# Altium integrated library 885012004001_Altium_WCAP-CSGP_rev24c.IntLib: 1002 symbols (part 5 of 21)
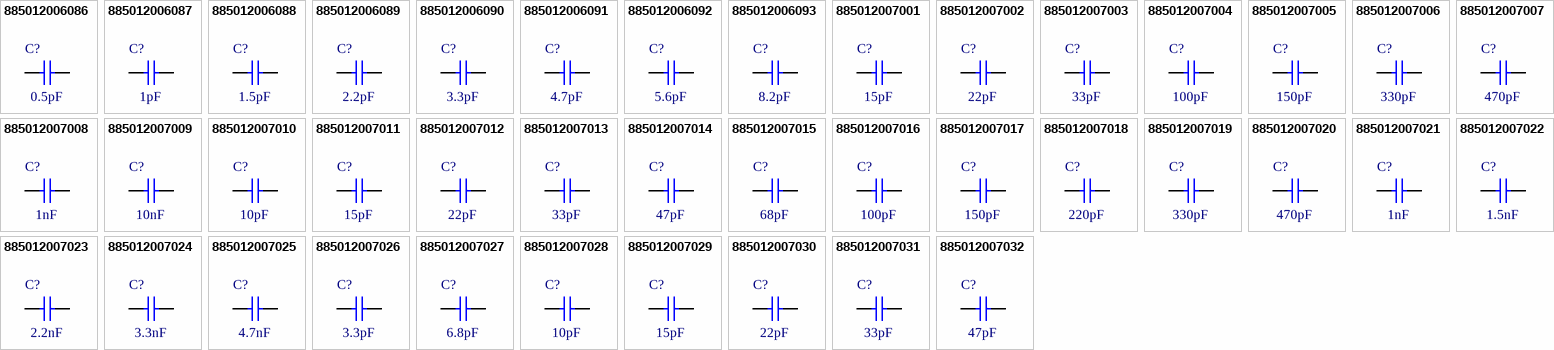
[diagram p29: symbols 885012006086 to 885012007032]

## 885012007031
designator C?, comment 33pF
WCAP-CSGP Multilayer Ceramic Chip Capacitor, General Purpose, size 0805, NP0, 33pF, 25V; Manufacturer Part Number: 885012007031; Manufacturer: Wurth Elektronik; Case/Size Code: 0805; Capacitance Tolerance: +/-5%; Insulation Resistance: 10GΩ; Q Factor: 1000; Technical Reference: NP00805330J025DFCT10000; Category: Multilayer Ceramic Chip Capacitors; Match Code: WCAP-CSGP; ComponentLink1Description: Website Link; ComponentLink1URL: https://www.we-online.com/redexpert/article/885012007031?ad; ComponentLink2Description: Datasheet Link; ComponentLink2URL: https://www.we-online.com/redexpert/spec/885012007031?ad; Mount: Surface Mount; Min Operating Temperature: -55°C; Max Operating Temperature: 125°C; Packaging: Tape and Reel; Length: 2mm; Width: 1.25mm; Height: 0.6mm; Capacitance: 33pF; Ceramic Type: NP0; Rated Voltage (DC): 25V
footprint WCAP-CSGP_0805_L2W1.25H0.6_Reflow
footprint WCAP-CSGP_0805_L2W1.25H0.6_Wave
simulation model 0805_885012007031_33pF
pins: 1, 2

## 885012007032
designator C?, comment 47pF
WCAP-CSGP Multilayer Ceramic Chip Capacitor, General Purpose, size 0805, NP0, 47pF, 25V; Manufacturer Part Number: 885012007032; Manufacturer: Wurth Elektronik; Case/Size Code: 0805; Capacitance Tolerance: +/-5%; Insulation Resistance: 10GΩ; Q Factor: 1000; Technical Reference: NP00805470J025DFCT10000; Category: Multilayer Ceramic Chip Capacitors; Match Code: WCAP-CSGP; ComponentLink1Description: Website Link; ComponentLink1URL: https://www.we-online.com/redexpert/article/885012007032?ad; ComponentLink2Description: Datasheet Link; ComponentLink2URL: https://www.we-online.com/redexpert/spec/885012007032?ad; Mount: Surface Mount; Min Operating Temperature: -55°C; Max Operating Temperature: 125°C; Packaging: Tape and Reel; Length: 2mm; Width: 1.25mm; Height: 0.6mm; Capacitance: 47pF; Ceramic Type: NP0; Rated Voltage (DC): 25V
footprint WCAP-CSGP_0805_L2W1.25H0.6_Reflow
footprint WCAP-CSGP_0805_L2W1.25H0.6_Wave
simulation model 0805_885012007032_47pF
pins: 1, 2

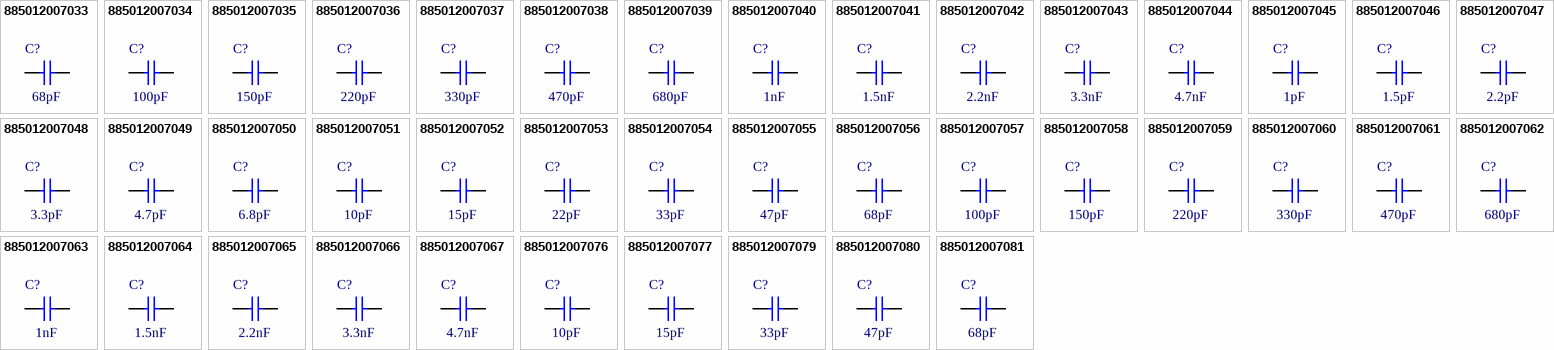
[diagram p5: symbols 885012007033 to 885012007081]

## 885012007033
designator C?, comment 68pF
WCAP-CSGP Multilayer Ceramic Chip Capacitor, General Purpose, size 0805, NP0, 68pF, 25V; Manufacturer Part Number: 885012007033; Manufacturer: Wurth Elektronik; Case/Size Code: 0805; Capacitance Tolerance: +/-5%; Insulation Resistance: 10GΩ; Q Factor: 1000; Technical Reference: NP00805680J025DFCT10000; Category: Multilayer Ceramic Chip Capacitors; Match Code: WCAP-CSGP; ComponentLink1Description: Website Link; ComponentLink1URL: https://www.we-online.com/redexpert/article/885012007033?ad; ComponentLink2Description: Datasheet Link; ComponentLink2URL: https://www.we-online.com/redexpert/spec/885012007033?ad; Mount: Surface Mount; Min Operating Temperature: -55°C; Max Operating Temperature: 125°C; Packaging: Tape and Reel; Length: 2mm; Width: 1.25mm; Height: 0.6mm; Capacitance: 68pF; Ceramic Type: NP0; Rated Voltage (DC): 25V
footprint WCAP-CSGP_0805_L2W1.25H0.6_Reflow
footprint WCAP-CSGP_0805_L2W1.25H0.6_Wave
simulation model 0805_885012007033_68pF
pins: 1, 2

## 885012007034
designator C?, comment 100pF
WCAP-CSGP Multilayer Ceramic Chip Capacitor, General Purpose, size 0805, NP0, 100pF, 25V; Manufacturer Part Number: 885012007034; Manufacturer: Wurth Elektronik; Case/Size Code: 0805; Capacitance Tolerance: +/-5%; Insulation Resistance: 10GΩ; Q Factor: 1000; Technical Reference: NP00805101J025DFCT10000; Category: Multilayer Ceramic Chip Capacitors; Match Code: WCAP-CSGP; ComponentLink1Description: Website Link; ComponentLink1URL: https://www.we-online.com/redexpert/article/885012007034?ad; ComponentLink2Description: Datasheet Link; ComponentLink2URL: https://www.we-online.com/redexpert/spec/885012007034?ad; Mount: Surface Mount; Min Operating Temperature: -55°C; Max Operating Temperature: 125°C; Packaging: Tape and Reel; Length: 2mm; Width: 1.25mm; Height: 0.6mm; Capacitance: 100pF; Ceramic Type: NP0; Rated Voltage (DC): 25V
footprint WCAP-CSGP_0805_L2W1.25H0.6_Reflow
footprint WCAP-CSGP_0805_L2W1.25H0.6_Wave
simulation model 0805_885012007034_100pF
pins: 1, 2

## 885012007035
designator C?, comment 150pF
WCAP-CSGP Multilayer Ceramic Chip Capacitor, General Purpose, size 0805, NP0, 150pF, 25V; Manufacturer Part Number: 885012007035; Manufacturer: Wurth Elektronik; Case/Size Code: 0805; Capacitance Tolerance: +/-5%; Insulation Resistance: 10GΩ; Q Factor: 1000; Technical Reference: NP00805151J025DFCT10000; Category: Multilayer Ceramic Chip Capacitors; Match Code: WCAP-CSGP; ComponentLink1Description: Website Link; ComponentLink1URL: https://www.we-online.com/redexpert/article/885012007035?ad; ComponentLink2Description: Datasheet Link; ComponentLink2URL: https://www.we-online.com/redexpert/spec/885012007035?ad; Mount: Surface Mount; Min Operating Temperature: -55°C; Max Operating Temperature: 125°C; Packaging: Tape and Reel; Length: 2mm; Width: 1.25mm; Height: 0.6mm; Capacitance: 150pF; Ceramic Type: NP0; Rated Voltage (DC): 25V
footprint WCAP-CSGP_0805_L2W1.25H0.6_Reflow
footprint WCAP-CSGP_0805_L2W1.25H0.6_Wave
simulation model 0805_885012007035_150pF
pins: 1, 2

## 885012007036
designator C?, comment 220pF
WCAP-CSGP Multilayer Ceramic Chip Capacitor, General Purpose, size 0805, NP0, 220pF, 25V; Manufacturer Part Number: 885012007036; Manufacturer: Wurth Elektronik; Case/Size Code: 0805; Capacitance Tolerance: +/-5%; Insulation Resistance: 10GΩ; Q Factor: 1000; Technical Reference: NP00805221J025DFCT10000; Category: Multilayer Ceramic Chip Capacitors; Match Code: WCAP-CSGP; ComponentLink1Description: Website Link; ComponentLink1URL: https://www.we-online.com/redexpert/article/885012007036?ad; ComponentLink2Description: Datasheet Link; ComponentLink2URL: https://www.we-online.com/redexpert/spec/885012007036?ad; Mount: Surface Mount; Min Operating Temperature: -55°C; Max Operating Temperature: 125°C; Packaging: Tape and Reel; Length: 2mm; Width: 1.25mm; Height: 0.6mm; Capacitance: 220pF; Ceramic Type: NP0; Rated Voltage (DC): 25V
footprint WCAP-CSGP_0805_L2W1.25H0.6_Reflow
footprint WCAP-CSGP_0805_L2W1.25H0.6_Wave
simulation model 0805_885012007036_220pF
pins: 1, 2

## 885012007037
designator C?, comment 330pF
WCAP-CSGP Multilayer Ceramic Chip Capacitor, General Purpose, size 0805, NP0, 330pF, 25V; Manufacturer Part Number: 885012007037; Manufacturer: Wurth Elektronik; Case/Size Code: 0805; Capacitance Tolerance: +/-5%; Insulation Resistance: 10GΩ; Q Factor: 1000; Technical Reference: NP00805331J025DFCT10000; Category: Multilayer Ceramic Chip Capacitors; Match Code: WCAP-CSGP; ComponentLink1Description: Website Link; ComponentLink1URL: https://www.we-online.com/redexpert/article/885012007037?ad; ComponentLink2Description: Datasheet Link; ComponentLink2URL: https://www.we-online.com/redexpert/spec/885012007037?ad; Mount: Surface Mount; Min Operating Temperature: -55°C; Max Operating Temperature: 125°C; Packaging: Tape and Reel; Length: 2mm; Width: 1.25mm; Height: 0.6mm; Capacitance: 330pF; Ceramic Type: NP0; Rated Voltage (DC): 25V
footprint WCAP-CSGP_0805_L2W1.25H0.6_Reflow
footprint WCAP-CSGP_0805_L2W1.25H0.6_Wave
simulation model 0805_885012007037_330pF
pins: 1, 2

## 885012007038
designator C?, comment 470pF
WCAP-CSGP Multilayer Ceramic Chip Capacitor, General Purpose, size 0805, NP0, 470pF, 25V; Manufacturer Part Number: 885012007038; Manufacturer: Wurth Elektronik; Case/Size Code: 0805; Capacitance Tolerance: +/-5%; Insulation Resistance: 10GΩ; Q Factor: 1000; Technical Reference: NP00805471J025DFCT10000; Category: Multilayer Ceramic Chip Capacitors; Match Code: WCAP-CSGP; ComponentLink1Description: Website Link; ComponentLink1URL: https://www.we-online.com/redexpert/article/885012007038?ad; ComponentLink2Description: Datasheet Link; ComponentLink2URL: https://www.we-online.com/redexpert/spec/885012007038?ad; Mount: Surface Mount; Min Operating Temperature: -55°C; Max Operating Temperature: 125°C; Packaging: Tape and Reel; Length: 2mm; Width: 1.25mm; Height: 0.8mm; Capacitance: 470pF; Ceramic Type: NP0; Rated Voltage (DC): 25V
footprint WCAP-CSGP_0805_L2W1.25H0.8_Reflow
footprint WCAP-CSGP_0805_L2W1.25H0.8_Wave
simulation model 0805_885012007038_470pF
pins: 1, 2

## 885012007039
designator C?, comment 680pF
WCAP-CSGP Multilayer Ceramic Chip Capacitor, General Purpose, size 0805, NP0, 680pF, 25V; Manufacturer Part Number: 885012007039; Manufacturer: Wurth Elektronik; Case/Size Code: 0805; Capacitance Tolerance: +/-5%; Insulation Resistance: 10GΩ; Q Factor: 1000; Technical Reference: NP00805681J025DFCT10000; Category: Multilayer Ceramic Chip Capacitors; Match Code: WCAP-CSGP; ComponentLink1Description: Website Link; ComponentLink1URL: https://www.we-online.com/redexpert/article/885012007039?ad; ComponentLink2Description: Datasheet Link; ComponentLink2URL: https://www.we-online.com/redexpert/spec/885012007039?ad; Mount: Surface Mount; Min Operating Temperature: -55°C; Max Operating Temperature: 125°C; Packaging: Tape and Reel; Length: 2mm; Width: 1.25mm; Height: 0.8mm; Capacitance: 680pF; Ceramic Type: NP0; Rated Voltage (DC): 25V
footprint WCAP-CSGP_0805_L2W1.25H0.8_Reflow
footprint WCAP-CSGP_0805_L2W1.25H0.8_Wave
simulation model 0805_885012007039_680pF
pins: 1, 2

## 885012007040
designator C?, comment 1nF
WCAP-CSGP Multilayer Ceramic Chip Capacitor, General Purpose, size 0805, NP0, 1nF, 25V; Manufacturer Part Number: 885012007040; Manufacturer: Wurth Elektronik; Case/Size Code: 0805; Capacitance Tolerance: +/-5%; Insulation Resistance: 10GΩ; Q Factor: 1000; Technical Reference: NP00805102J025DFCT10000; Category: Multilayer Ceramic Chip Capacitors; Match Code: WCAP-CSGP; ComponentLink1Description: Website Link; ComponentLink1URL: https://www.we-online.com/redexpert/article/885012007040?ad; ComponentLink2Description: Datasheet Link; ComponentLink2URL: https://www.we-online.com/redexpert/spec/885012007040?ad; Mount: Surface Mount; Min Operating Temperature: -55°C; Max Operating Temperature: 125°C; Packaging: Tape and Reel; Length: 2mm; Width: 1.25mm; Height: 0.8mm; Capacitance: 1nF; Ceramic Type: NP0; Rated Voltage (DC): 25V
footprint WCAP-CSGP_0805_L2W1.25H0.8_Reflow
footprint WCAP-CSGP_0805_L2W1.25H0.8_Wave
simulation model 0805_885012007040_1nF
pins: 1, 2

## 885012007041
designator C?, comment 1.5nF
WCAP-CSGP Multilayer Ceramic Chip Capacitor, General Purpose, size 0805, NP0, 1.5nF, 25V; Manufacturer Part Number: 885012007041; Manufacturer: Wurth Elektronik; Case/Size Code: 0805; Capacitance Tolerance: +/-5%; Insulation Resistance: 10GΩ; Q Factor: 1000; Technical Reference: NP00805152J025DFCT10000; Category: Multilayer Ceramic Chip Capacitors; Match Code: WCAP-CSGP; ComponentLink1Description: Website Link; ComponentLink1URL: https://www.we-online.com/redexpert/article/885012007041?ad; ComponentLink2Description: Datasheet Link; ComponentLink2URL: https://www.we-online.com/redexpert/spec/885012007041?ad; Mount: Surface Mount; Min Operating Temperature: -55°C; Max Operating Temperature: 125°C; Packaging: Tape and Reel; Length: 2mm; Width: 1.25mm; Height: 0.8mm; Capacitance: 1.5nF; Ceramic Type: NP0; Rated Voltage (DC): 25V
footprint WCAP-CSGP_0805_L2W1.25H0.8_Reflow
footprint WCAP-CSGP_0805_L2W1.25H0.8_Wave
simulation model 0805_885012007041_1.5nF
pins: 1, 2

## 885012007042
designator C?, comment 2.2nF
WCAP-CSGP Multilayer Ceramic Chip Capacitor, General Purpose, size 0805, NP0, 2.2nF, 25V; Manufacturer Part Number: 885012007042; Manufacturer: Wurth Elektronik; Case/Size Code: 0805; Capacitance Tolerance: +/-5%; Insulation Resistance: 10GΩ; Q Factor: 1000; Technical Reference: NP00805222J025DFCT10000; Category: Multilayer Ceramic Chip Capacitors; Match Code: WCAP-CSGP; ComponentLink1Description: Website Link; ComponentLink1URL: https://www.we-online.com/redexpert/article/885012007042?ad; ComponentLink2Description: Datasheet Link; ComponentLink2URL: https://www.we-online.com/redexpert/spec/885012007042?ad; Mount: Surface Mount; Min Operating Temperature: -55°C; Max Operating Temperature: 125°C; Packaging: Tape and Reel; Length: 2mm; Width: 1.25mm; Height: 0.8mm; Capacitance: 2.2nF; Ceramic Type: NP0; Rated Voltage (DC): 25V
footprint WCAP-CSGP_0805_L2W1.25H0.8_Reflow
footprint WCAP-CSGP_0805_L2W1.25H0.8_Wave
simulation model 0805_885012007042_2.2nF
pins: 1, 2

## 885012007043
designator C?, comment 3.3nF
WCAP-CSGP Multilayer Ceramic Chip Capacitor, General Purpose, size 0805, NP0, 3.3nF, 25V; Manufacturer Part Number: 885012007043; Manufacturer: Wurth Elektronik; Case/Size Code: 0805; Capacitance Tolerance: +/-5%; Insulation Resistance: 10GΩ; Q Factor: 1000; Technical Reference: NP00805332J025DFCT10000; Category: Multilayer Ceramic Chip Capacitors; Match Code: WCAP-CSGP; ComponentLink1Description: Website Link; ComponentLink1URL: https://www.we-online.com/redexpert/article/885012007043?ad; ComponentLink2Description: Datasheet Link; ComponentLink2URL: https://www.we-online.com/redexpert/spec/885012007043?ad; Mount: Surface Mount; Min Operating Temperature: -55°C; Max Operating Temperature: 125°C; Packaging: Tape and Reel; Length: 2mm; Width: 1.25mm; Height: 1.25mm; Capacitance: 3.3nF; Ceramic Type: NP0; Rated Voltage (DC): 25V
footprint WCAP-CSGP_0805_L2W1.25H1.25
simulation model 0805_885012007043_3.3nF
pins: 1, 2

## 885012007044
designator C?, comment 4.7nF
WCAP-CSGP Multilayer Ceramic Chip Capacitor, General Purpose, size 0805, NP0, 4.7nF, 25V; Manufacturer Part Number: 885012007044; Manufacturer: Wurth Elektronik; Case/Size Code: 0805; Capacitance Tolerance: +/-5%; Insulation Resistance: 10GΩ; Q Factor: 1000; Technical Reference: NP00805472J025DFCT10000; Category: Multilayer Ceramic Chip Capacitors; Match Code: WCAP-CSGP; ComponentLink1Description: Website Link; ComponentLink1URL: https://www.we-online.com/redexpert/article/885012007044?ad; ComponentLink2Description: Datasheet Link; ComponentLink2URL: https://www.we-online.com/redexpert/spec/885012007044?ad; Mount: Surface Mount; Min Operating Temperature: -55°C; Max Operating Temperature: 125°C; Packaging: Tape and Reel; Length: 2mm; Width: 1.25mm; Height: 1.25mm; Capacitance: 4.7nF; Ceramic Type: NP0; Rated Voltage (DC): 25V
footprint WCAP-CSGP_0805_L2W1.25H1.25
simulation model 0805_885012007044_4.7nF
pins: 1, 2

## 885012007045
designator C?, comment 1pF
WCAP-CSGP Multilayer Ceramic Chip Capacitor, General Purpose, size 0805, NP0, 1pF, 50V; Manufacturer Part Number: 885012007045; Manufacturer: Wurth Elektronik; Case/Size Code: 0805; Capacitance Tolerance: +/-0.5pF; Insulation Resistance: 10GΩ; Q Factor: 420; Technical Reference: NP008051R0D050DFCT10000; Category: Multilayer Ceramic Chip Capacitors; Match Code: WCAP-CSGP; ComponentLink1Description: Website Link; ComponentLink1URL: https://www.we-online.com/redexpert/article/885012007045?ad; ComponentLink2Description: Datasheet Link; ComponentLink2URL: https://www.we-online.com/redexpert/spec/885012007045?ad; Mount: Surface Mount; Min Operating Temperature: -55°C; Max Operating Temperature: 125°C; Packaging: Tape and Reel; Length: 2mm; Width: 1.25mm; Height: 0.6mm; Capacitance: 1pF; Ceramic Type: NP0; Rated Voltage (DC): 50V
footprint WCAP-CSGP_0805_L2W1.25H0.6_Reflow
footprint WCAP-CSGP_0805_L2W1.25H0.6_Wave
pins: 1, 2

## 885012007046
designator C?, comment 1.5pF
WCAP-CSGP Multilayer Ceramic Chip Capacitor, General Purpose, size 0805, NP0, 1.5pF, 50V; Manufacturer Part Number: 885012007046; Manufacturer: Wurth Elektronik; Case/Size Code: 0805; Capacitance Tolerance: +/-0.5pF; Insulation Resistance: 10GΩ; Q Factor: 430; Technical Reference: NP008051R5D050DFCT10000; Category: Multilayer Ceramic Chip Capacitors; Match Code: WCAP-CSGP; ComponentLink1Description: Website Link; ComponentLink1URL: https://www.we-online.com/redexpert/article/885012007046?ad; ComponentLink2Description: Datasheet Link; ComponentLink2URL: https://www.we-online.com/redexpert/spec/885012007046?ad; Mount: Surface Mount; Min Operating Temperature: -55°C; Max Operating Temperature: 125°C; Packaging: Tape and Reel; Length: 2mm; Width: 1.25mm; Height: 0.6mm; Capacitance: 1.5pF; Ceramic Type: NP0; Rated Voltage (DC): 50V
footprint WCAP-CSGP_0805_L2W1.25H0.6_Reflow
footprint WCAP-CSGP_0805_L2W1.25H0.6_Wave
simulation model 0805_885012007046_1.5pF
pins: 1, 2

## 885012007047
designator C?, comment 2.2pF
WCAP-CSGP Multilayer Ceramic Chip Capacitor, General Purpose, size 0805, NP0, 2.2pF, 50V; Manufacturer Part Number: 885012007047; Manufacturer: Wurth Elektronik; Case/Size Code: 0805; Capacitance Tolerance: +/-0.5pF; Insulation Resistance: 10GΩ; Q Factor: 444; Technical Reference: NP008052R2D050DFCT10000; Category: Multilayer Ceramic Chip Capacitors; Match Code: WCAP-CSGP; ComponentLink1Description: Website Link; ComponentLink1URL: https://www.we-online.com/redexpert/article/885012007047?ad; ComponentLink2Description: Datasheet Link; ComponentLink2URL: https://www.we-online.com/redexpert/spec/885012007047?ad; Mount: Surface Mount; Min Operating Temperature: -55°C; Max Operating Temperature: 125°C; Packaging: Tape and Reel; Length: 2mm; Width: 1.25mm; Height: 0.6mm; Capacitance: 2.2pF; Ceramic Type: NP0; Rated Voltage (DC): 50V
footprint WCAP-CSGP_0805_L2W1.25H0.6_Reflow
footprint WCAP-CSGP_0805_L2W1.25H0.6_Wave
simulation model 0805_885012007047_2.2pF
pins: 1, 2

## 885012007048
designator C?, comment 3.3pF
WCAP-CSGP Multilayer Ceramic Chip Capacitor, General Purpose, size 0805, NP0, 3.3pF, 50V; Manufacturer Part Number: 885012007048; Manufacturer: Wurth Elektronik; Case/Size Code: 0805; Capacitance Tolerance: +/-0.5pF; Insulation Resistance: 10GΩ; Q Factor: 466; Technical Reference: NP008053R3D050DFCT10000; Category: Multilayer Ceramic Chip Capacitors; Match Code: WCAP-CSGP; ComponentLink1Description: Website Link; ComponentLink1URL: https://www.we-online.com/redexpert/article/885012007048?ad; ComponentLink2Description: Datasheet Link; ComponentLink2URL: https://www.we-online.com/redexpert/spec/885012007048?ad; Mount: Surface Mount; Min Operating Temperature: -55°C; Max Operating Temperature: 125°C; Packaging: Tape and Reel; Length: 2mm; Width: 1.25mm; Height: 0.6mm; Capacitance: 3.3pF; Ceramic Type: NP0; Rated Voltage (DC): 50V
footprint WCAP-CSGP_0805_L2W1.25H0.6_Reflow
footprint WCAP-CSGP_0805_L2W1.25H0.6_Wave
simulation model 0805_885012007048_3.3pF
pins: 1, 2

## 885012007049
designator C?, comment 4.7pF
WCAP-CSGP Multilayer Ceramic Chip Capacitor, General Purpose, size 0805, NP0, 4.7pF, 50V; Manufacturer Part Number: 885012007049; Manufacturer: Wurth Elektronik; Case/Size Code: 0805; Capacitance Tolerance: +/-0.5pF; Insulation Resistance: 10GΩ; Q Factor: 494; Technical Reference: NP008054R7D050DFCT10000; Category: Multilayer Ceramic Chip Capacitors; Match Code: WCAP-CSGP; ComponentLink1Description: Website Link; ComponentLink1URL: https://www.we-online.com/redexpert/article/885012007049?ad; ComponentLink2Description: Datasheet Link; ComponentLink2URL: https://www.we-online.com/redexpert/spec/885012007049?ad; Mount: Surface Mount; Min Operating Temperature: -55°C; Max Operating Temperature: 125°C; Packaging: Tape and Reel; Length: 2mm; Width: 1.25mm; Height: 0.6mm; Capacitance: 4.7pF; Ceramic Type: NP0; Rated Voltage (DC): 50V
footprint WCAP-CSGP_0805_L2W1.25H0.6_Reflow
footprint WCAP-CSGP_0805_L2W1.25H0.6_Wave
simulation model 0805_885012007049_4.7pF
pins: 1, 2

## 885012007050
designator C?, comment 6.8pF
WCAP-CSGP Multilayer Ceramic Chip Capacitor, General Purpose, size 0805, NP0, 6.8pF, 50V; Manufacturer Part Number: 885012007050; Manufacturer: Wurth Elektronik; Case/Size Code: 0805; Capacitance Tolerance: +/-0.5pF; Insulation Resistance: 10GΩ; Q Factor: 536; Technical Reference: NP008056R8D050DFCT10000; Category: Multilayer Ceramic Chip Capacitors; Match Code: WCAP-CSGP; ComponentLink1Description: Website Link; ComponentLink1URL: https://www.we-online.com/redexpert/article/885012007050?ad; ComponentLink2Description: Datasheet Link; ComponentLink2URL: https://www.we-online.com/redexpert/spec/885012007050?ad; Mount: Surface Mount; Min Operating Temperature: -55°C; Max Operating Temperature: 125°C; Packaging: Tape and Reel; Length: 2mm; Width: 1.25mm; Height: 0.6mm; Capacitance: 6.8pF; Ceramic Type: NP0; Rated Voltage (DC): 50V
footprint WCAP-CSGP_0805_L2W1.25H0.6_Reflow
footprint WCAP-CSGP_0805_L2W1.25H0.6_Wave
simulation model 0805_885012007050_6.8pF
pins: 1, 2

## 885012007051
designator C?, comment 10pF
WCAP-CSGP Multilayer Ceramic Chip Capacitor, General Purpose, size 0805, NP0, 10pF, 50V; Manufacturer Part Number: 885012007051; Manufacturer: Wurth Elektronik; Case/Size Code: 0805; Capacitance Tolerance: +/-5%; Insulation Resistance: 10GΩ; Q Factor: 600; Technical Reference: NP00805100J050DFCT10000; Category: Multilayer Ceramic Chip Capacitors; Match Code: WCAP-CSGP; ComponentLink1Description: Website Link; ComponentLink1URL: https://www.we-online.com/redexpert/article/885012007051?ad; ComponentLink2Description: Datasheet Link; ComponentLink2URL: https://www.we-online.com/redexpert/spec/885012007051?ad; Mount: Surface Mount; Min Operating Temperature: -55°C; Max Operating Temperature: 125°C; Packaging: Tape and Reel; Length: 2mm; Width: 1.25mm; Height: 0.6mm; Capacitance: 10pF; Ceramic Type: NP0; Rated Voltage (DC): 50V
footprint WCAP-CSGP_0805_L2W1.25H0.6_Reflow
footprint WCAP-CSGP_0805_L2W1.25H0.6_Wave
simulation model 0805_885012007051_10pF
pins: 1, 2

## 885012007052
designator C?, comment 15pF
WCAP-CSGP Multilayer Ceramic Chip Capacitor, General Purpose, size 0805, NP0, 15pF, 50V; Manufacturer Part Number: 885012007052; Manufacturer: Wurth Elektronik; Case/Size Code: 0805; Capacitance Tolerance: +/-5%; Insulation Resistance: 10GΩ; Q Factor: 700; Technical Reference: NP00805150J050DFCT10000; Category: Multilayer Ceramic Chip Capacitors; Match Code: WCAP-CSGP; ComponentLink1Description: Website Link; ComponentLink1URL: https://www.we-online.com/redexpert/article/885012007052?ad; ComponentLink2Description: Datasheet Link; ComponentLink2URL: https://www.we-online.com/redexpert/spec/885012007052?ad; Mount: Surface Mount; Min Operating Temperature: -55°C; Max Operating Temperature: 125°C; Packaging: Tape and Reel; Length: 2mm; Width: 1.25mm; Height: 0.6mm; Capacitance: 15pF; Ceramic Type: NP0; Rated Voltage (DC): 50V
footprint WCAP-CSGP_0805_L2W1.25H0.6_Reflow
footprint WCAP-CSGP_0805_L2W1.25H0.6_Wave
simulation model 0805_885012007052_15pF
pins: 1, 2

## 885012007053
designator C?, comment 22pF
WCAP-CSGP Multilayer Ceramic Chip Capacitor, General Purpose, size 0805, NP0, 22pF, 50V; Manufacturer Part Number: 885012007053; Manufacturer: Wurth Elektronik; Case/Size Code: 0805; Capacitance Tolerance: +/-5%; Insulation Resistance: 10GΩ; Q Factor: 840; Technical Reference: NP00805220J050DFCT10000; Category: Multilayer Ceramic Chip Capacitors; Match Code: WCAP-CSGP; ComponentLink1Description: Website Link; ComponentLink1URL: https://www.we-online.com/redexpert/article/885012007053?ad; ComponentLink2Description: Datasheet Link; ComponentLink2URL: https://www.we-online.com/redexpert/spec/885012007053?ad; Mount: Surface Mount; Min Operating Temperature: -55°C; Max Operating Temperature: 125°C; Packaging: Tape and Reel; Length: 2mm; Width: 1.25mm; Height: 0.6mm; Capacitance: 22pF; Ceramic Type: NP0; Rated Voltage (DC): 50V
footprint WCAP-CSGP_0805_L2W1.25H0.6_Reflow
footprint WCAP-CSGP_0805_L2W1.25H0.6_Wave
simulation model 0805_885012007053_22pF
pins: 1, 2

## 885012007054
designator C?, comment 33pF
WCAP-CSGP Multilayer Ceramic Chip Capacitor, General Purpose, size 0805, NP0, 33pF, 50V; Manufacturer Part Number: 885012007054; Manufacturer: Wurth Elektronik; Case/Size Code: 0805; Capacitance Tolerance: +/-5%; Insulation Resistance: 10GΩ; Q Factor: 1000; Technical Reference: NP00805330J050DFCT10000; Category: Multilayer Ceramic Chip Capacitors; Match Code: WCAP-CSGP; ComponentLink1Description: Website Link; ComponentLink1URL: https://www.we-online.com/redexpert/article/885012007054?ad; ComponentLink2Description: Datasheet Link; ComponentLink2URL: https://www.we-online.com/redexpert/spec/885012007054?ad; Mount: Surface Mount; Min Operating Temperature: -55°C; Max Operating Temperature: 125°C; Packaging: Tape and Reel; Length: 2mm; Width: 1.25mm; Height: 0.6mm; Capacitance: 33pF; Ceramic Type: NP0; Rated Voltage (DC): 50V
footprint WCAP-CSGP_0805_L2W1.25H0.6_Reflow
footprint WCAP-CSGP_0805_L2W1.25H0.6_Wave
simulation model 0805_885012007054_33pF
pins: 1, 2

## 885012007055
designator C?, comment 47pF
WCAP-CSGP Multilayer Ceramic Chip Capacitor, General Purpose, size 0805, NP0, 47pF, 50V; Manufacturer Part Number: 885012007055; Manufacturer: Wurth Elektronik; Case/Size Code: 0805; Capacitance Tolerance: +/-5%; Insulation Resistance: 10GΩ; Q Factor: 1000; Technical Reference: NP00805470J050DFCT10000; Category: Multilayer Ceramic Chip Capacitors; Match Code: WCAP-CSGP; ComponentLink1Description: Website Link; ComponentLink1URL: https://www.we-online.com/redexpert/article/885012007055?ad; ComponentLink2Description: Datasheet Link; ComponentLink2URL: https://www.we-online.com/redexpert/spec/885012007055?ad; Mount: Surface Mount; Min Operating Temperature: -55°C; Max Operating Temperature: 125°C; Packaging: Tape and Reel; Length: 2mm; Width: 1.25mm; Height: 0.6mm; Capacitance: 47pF; Ceramic Type: NP0; Rated Voltage (DC): 50V
footprint WCAP-CSGP_0805_L2W1.25H0.6_Reflow
footprint WCAP-CSGP_0805_L2W1.25H0.6_Wave
simulation model 0805_885012007055_47pF
pins: 1, 2

## 885012007056
designator C?, comment 68pF
WCAP-CSGP Multilayer Ceramic Chip Capacitor, General Purpose, size 0805, NP0, 68pF, 50V; Manufacturer Part Number: 885012007056; Manufacturer: Wurth Elektronik; Case/Size Code: 0805; Capacitance Tolerance: +/-5%; Insulation Resistance: 10GΩ; Q Factor: 1000; Technical Reference: NP00805680J050DFCT10000; Category: Multilayer Ceramic Chip Capacitors; Match Code: WCAP-CSGP; ComponentLink1Description: Website Link; ComponentLink1URL: https://www.we-online.com/redexpert/article/885012007056?ad; ComponentLink2Description: Datasheet Link; ComponentLink2URL: https://www.we-online.com/redexpert/spec/885012007056?ad; Mount: Surface Mount; Min Operating Temperature: -55°C; Max Operating Temperature: 125°C; Packaging: Tape and Reel; Length: 2mm; Width: 1.25mm; Height: 0.6mm; Capacitance: 68pF; Ceramic Type: NP0; Rated Voltage (DC): 50V
footprint WCAP-CSGP_0805_L2W1.25H0.6_Reflow
footprint WCAP-CSGP_0805_L2W1.25H0.6_Wave
simulation model 0805_885012007056_68pF
pins: 1, 2

## 885012007057
designator C?, comment 100pF
WCAP-CSGP Multilayer Ceramic Chip Capacitor, General Purpose, size 0805, NP0, 100pF, 50V; Manufacturer Part Number: 885012007057; Manufacturer: Wurth Elektronik; Case/Size Code: 0805; Capacitance Tolerance: +/-5%; Insulation Resistance: 10GΩ; Q Factor: 1000; Technical Reference: NP00805101J050DFCT10000; Category: Multilayer Ceramic Chip Capacitors; Match Code: WCAP-CSGP; ComponentLink1Description: Website Link; ComponentLink1URL: https://www.we-online.com/redexpert/article/885012007057?ad; ComponentLink2Description: Datasheet Link; ComponentLink2URL: https://www.we-online.com/redexpert/spec/885012007057?ad; Mount: Surface Mount; Min Operating Temperature: -55°C; Max Operating Temperature: 125°C; Packaging: Tape and Reel; Length: 2mm; Width: 1.25mm; Height: 0.6mm; Capacitance: 100pF; Ceramic Type: NP0; Rated Voltage (DC): 50V
footprint WCAP-CSGP_0805_L2W1.25H0.6_Reflow
footprint WCAP-CSGP_0805_L2W1.25H0.6_Wave
simulation model 0805_885012007057_100pF
pins: 1, 2

## 885012007058
designator C?, comment 150pF
WCAP-CSGP Multilayer Ceramic Chip Capacitor, General Purpose, size 0805, NP0, 150pF, 50V; Manufacturer Part Number: 885012007058; Manufacturer: Wurth Elektronik; Case/Size Code: 0805; Capacitance Tolerance: +/-5%; Insulation Resistance: 10GΩ; Q Factor: 1000; Technical Reference: NP00805151J050DFCT10000; Category: Multilayer Ceramic Chip Capacitors; Match Code: WCAP-CSGP; ComponentLink1Description: Website Link; ComponentLink1URL: https://www.we-online.com/redexpert/article/885012007058?ad; ComponentLink2Description: Datasheet Link; ComponentLink2URL: https://www.we-online.com/redexpert/spec/885012007058?ad; Mount: Surface Mount; Min Operating Temperature: -55°C; Max Operating Temperature: 125°C; Packaging: Tape and Reel; Length: 2mm; Width: 1.25mm; Height: 0.6mm; Capacitance: 150pF; Ceramic Type: NP0; Rated Voltage (DC): 50V
footprint WCAP-CSGP_0805_L2W1.25H0.6_Reflow
footprint WCAP-CSGP_0805_L2W1.25H0.6_Wave
simulation model 0805_885012007058_150pF
pins: 1, 2

## 885012007059
designator C?, comment 220pF
WCAP-CSGP Multilayer Ceramic Chip Capacitor, General Purpose, size 0805, NP0, 220pF, 50V; Manufacturer Part Number: 885012007059; Manufacturer: Wurth Elektronik; Case/Size Code: 0805; Capacitance Tolerance: +/-5%; Insulation Resistance: 10GΩ; Q Factor: 1000; Technical Reference: NP00805221J050DFCT10000; Category: Multilayer Ceramic Chip Capacitors; Match Code: WCAP-CSGP; ComponentLink1Description: Website Link; ComponentLink1URL: https://www.we-online.com/redexpert/article/885012007059?ad; ComponentLink2Description: Datasheet Link; ComponentLink2URL: https://www.we-online.com/redexpert/spec/885012007059?ad; Mount: Surface Mount; Min Operating Temperature: -55°C; Max Operating Temperature: 125°C; Packaging: Tape and Reel; Length: 2mm; Width: 1.25mm; Height: 0.6mm; Capacitance: 220pF; Ceramic Type: NP0; Rated Voltage (DC): 50V
footprint WCAP-CSGP_0805_L2W1.25H0.6_Reflow
footprint WCAP-CSGP_0805_L2W1.25H0.6_Wave
simulation model 0805_885012007059_220pF
pins: 1, 2

## 885012007060
designator C?, comment 330pF
WCAP-CSGP Multilayer Ceramic Chip Capacitor, General Purpose, size 0805, NP0, 330pF, 50V; Manufacturer Part Number: 885012007060; Manufacturer: Wurth Elektronik; Case/Size Code: 0805; Capacitance Tolerance: +/-5%; Insulation Resistance: 10GΩ; Q Factor: 1000; Technical Reference: NP00805331J050DFCT10000; Category: Multilayer Ceramic Chip Capacitors; Match Code: WCAP-CSGP; ComponentLink1Description: Website Link; ComponentLink1URL: https://www.we-online.com/redexpert/article/885012007060?ad; ComponentLink2Description: Datasheet Link; ComponentLink2URL: https://www.we-online.com/redexpert/spec/885012007060?ad; Mount: Surface Mount; Min Operating Temperature: -55°C; Max Operating Temperature: 125°C; Packaging: Tape and Reel; Length: 2mm; Width: 1.25mm; Height: 0.6mm; Capacitance: 330pF; Ceramic Type: NP0; Rated Voltage (DC): 50V
footprint WCAP-CSGP_0805_L2W1.25H0.6_Reflow
footprint WCAP-CSGP_0805_L2W1.25H0.6_Wave
simulation model 0805_885012007060_330pF
pins: 1, 2

## 885012007061
designator C?, comment 470pF
WCAP-CSGP Multilayer Ceramic Chip Capacitor, General Purpose, size 0805, NP0, 470pF, 50V; Manufacturer Part Number: 885012007061; Manufacturer: Wurth Elektronik; Case/Size Code: 0805; Capacitance Tolerance: +/-5%; Insulation Resistance: 10GΩ; Q Factor: 1000; Technical Reference: NP00805471J050DFCT10000; Category: Multilayer Ceramic Chip Capacitors; Match Code: WCAP-CSGP; ComponentLink1Description: Website Link; ComponentLink1URL: https://www.we-online.com/redexpert/article/885012007061?ad; ComponentLink2Description: Datasheet Link; ComponentLink2URL: https://www.we-online.com/redexpert/spec/885012007061?ad; Mount: Surface Mount; Min Operating Temperature: -55°C; Max Operating Temperature: 125°C; Packaging: Tape and Reel; Length: 2mm; Width: 1.25mm; Height: 0.8mm; Capacitance: 470pF; Ceramic Type: NP0; Rated Voltage (DC): 50V
footprint WCAP-CSGP_0805_L2W1.25H0.8_Reflow
footprint WCAP-CSGP_0805_L2W1.25H0.8_Wave
simulation model 0805_885012007061_470pF
pins: 1, 2

## 885012007062
designator C?, comment 680pF
WCAP-CSGP Multilayer Ceramic Chip Capacitor, General Purpose, size 0805, NP0, 680pF, 50V; Manufacturer Part Number: 885012007062; Manufacturer: Wurth Elektronik; Case/Size Code: 0805; Capacitance Tolerance: +/-5%; Insulation Resistance: 10GΩ; Q Factor: 1000; Technical Reference: NP00805681J050DFCT10000; Category: Multilayer Ceramic Chip Capacitors; Match Code: WCAP-CSGP; ComponentLink1Description: Website Link; ComponentLink1URL: https://www.we-online.com/redexpert/article/885012007062?ad; ComponentLink2Description: Datasheet Link; ComponentLink2URL: https://www.we-online.com/redexpert/spec/885012007062?ad; Mount: Surface Mount; Min Operating Temperature: -55°C; Max Operating Temperature: 125°C; Packaging: Tape and Reel; Length: 2mm; Width: 1.25mm; Height: 0.8mm; Capacitance: 680pF; Ceramic Type: NP0; Rated Voltage (DC): 50V
footprint WCAP-CSGP_0805_L2W1.25H0.8_Reflow
footprint WCAP-CSGP_0805_L2W1.25H0.8_Wave
simulation model 0805_885012007062_680pF
pins: 1, 2

## 885012007063
designator C?, comment 1nF
WCAP-CSGP Multilayer Ceramic Chip Capacitor, General Purpose, size 0805, NP0, 1nF, 50V; Manufacturer Part Number: 885012007063; Manufacturer: Wurth Elektronik; Case/Size Code: 0805; Capacitance Tolerance: +/-5%; Insulation Resistance: 10GΩ; Q Factor: 1000; Technical Reference: NP00805102J050DFCT10000; Category: Multilayer Ceramic Chip Capacitors; Match Code: WCAP-CSGP; ComponentLink1Description: Website Link; ComponentLink1URL: https://www.we-online.com/redexpert/article/885012007063?ad; ComponentLink2Description: Datasheet Link; ComponentLink2URL: https://www.we-online.com/redexpert/spec/885012007063?ad; Mount: Surface Mount; Min Operating Temperature: -55°C; Max Operating Temperature: 125°C; Packaging: Tape and Reel; Length: 2mm; Width: 1.25mm; Height: 0.8mm; Capacitance: 1nF; Ceramic Type: NP0; Rated Voltage (DC): 50V
footprint WCAP-CSGP_0805_L2W1.25H0.8_Reflow
footprint WCAP-CSGP_0805_L2W1.25H0.8_Wave
simulation model 0805_885012007063_1nF
pins: 1, 2

## 885012007064
designator C?, comment 1.5nF
WCAP-CSGP Multilayer Ceramic Chip Capacitor, General Purpose, size 0805, NP0, 1.5nF, 50V; Manufacturer Part Number: 885012007064; Manufacturer: Wurth Elektronik; Case/Size Code: 0805; Capacitance Tolerance: +/-5%; Insulation Resistance: 10GΩ; Q Factor: 1000; Technical Reference: NP00805152J050DFCT10000; Category: Multilayer Ceramic Chip Capacitors; Match Code: WCAP-CSGP; ComponentLink1Description: Website Link; ComponentLink1URL: https://www.we-online.com/redexpert/article/885012007064?ad; ComponentLink2Description: Datasheet Link; ComponentLink2URL: https://www.we-online.com/redexpert/spec/885012007064?ad; Mount: Surface Mount; Min Operating Temperature: -55°C; Max Operating Temperature: 125°C; Packaging: Tape and Reel; Length: 2mm; Width: 1.25mm; Height: 0.8mm; Capacitance: 1.5nF; Ceramic Type: NP0; Rated Voltage (DC): 50V
footprint WCAP-CSGP_0805_L2W1.25H0.8_Reflow
footprint WCAP-CSGP_0805_L2W1.25H0.8_Wave
simulation model 0805_885012007064_1.5nF
pins: 1, 2

## 885012007065
designator C?, comment 2.2nF
WCAP-CSGP Multilayer Ceramic Chip Capacitor, General Purpose, size 0805, NP0, 2.2nF, 50V; Manufacturer Part Number: 885012007065; Manufacturer: Wurth Elektronik; Case/Size Code: 0805; Capacitance Tolerance: +/-5%; Insulation Resistance: 10GΩ; Q Factor: 1000; Technical Reference: NP00805222J050DFCT10000; Category: Multilayer Ceramic Chip Capacitors; Match Code: WCAP-CSGP; ComponentLink1Description: Website Link; ComponentLink1URL: https://www.we-online.com/redexpert/article/885012007065?ad; ComponentLink2Description: Datasheet Link; ComponentLink2URL: https://www.we-online.com/redexpert/spec/885012007065?ad; Mount: Surface Mount; Min Operating Temperature: -55°C; Max Operating Temperature: 125°C; Packaging: Tape and Reel; Length: 2mm; Width: 1.25mm; Height: 0.8mm; Capacitance: 2.2nF; Ceramic Type: NP0; Rated Voltage (DC): 50V
footprint WCAP-CSGP_0805_L2W1.25H0.8_Reflow
footprint WCAP-CSGP_0805_L2W1.25H0.8_Wave
simulation model 0805_885012007065_2.2nF
pins: 1, 2

## 885012007066
designator C?, comment 3.3nF
WCAP-CSGP Multilayer Ceramic Chip Capacitor, General Purpose, size 0805, NP0, 3.3nF, 50V; Manufacturer Part Number: 885012007066; Manufacturer: Wurth Elektronik; Case/Size Code: 0805; Capacitance Tolerance: +/-5%; Insulation Resistance: 10GΩ; Q Factor: 1000; Technical Reference: NP00805332J050DFCT10000; Category: Multilayer Ceramic Chip Capacitors; Match Code: WCAP-CSGP; ComponentLink1Description: Website Link; ComponentLink1URL: https://www.we-online.com/redexpert/article/885012007066?ad; ComponentLink2Description: Datasheet Link; ComponentLink2URL: https://www.we-online.com/redexpert/spec/885012007066?ad; Mount: Surface Mount; Min Operating Temperature: -55°C; Max Operating Temperature: 125°C; Packaging: Tape and Reel; Length: 2mm; Width: 1.25mm; Height: 1.25mm; Capacitance: 3.3nF; Ceramic Type: NP0; Rated Voltage (DC): 50V
footprint WCAP-CSGP_0805_L2W1.25H1.25
simulation model 0805_885012007066_3.3nF
pins: 1, 2

## 885012007067
designator C?, comment 4.7nF
WCAP-CSGP Multilayer Ceramic Chip Capacitor, General Purpose, size 0805, NP0, 4.7nF, 50V; Manufacturer Part Number: 885012007067; Manufacturer: Wurth Elektronik; Case/Size Code: 0805; Capacitance Tolerance: +/-5%; Insulation Resistance: 10GΩ; Q Factor: 1000; Technical Reference: NP00805472J050DFCT10000; Category: Multilayer Ceramic Chip Capacitors; Match Code: WCAP-CSGP; ComponentLink1Description: Website Link; ComponentLink1URL: https://www.we-online.com/redexpert/article/885012007067?ad; ComponentLink2Description: Datasheet Link; ComponentLink2URL: https://www.we-online.com/redexpert/spec/885012007067?ad; Mount: Surface Mount; Min Operating Temperature: -55°C; Max Operating Temperature: 125°C; Packaging: Tape and Reel; Length: 2mm; Width: 1.25mm; Height: 1.25mm; Capacitance: 4.7nF; Ceramic Type: NP0; Rated Voltage (DC): 50V
footprint WCAP-CSGP_0805_L2W1.25H1.25
simulation model 0805_885012007067_4.7nF
pins: 1, 2

## 885012007076
designator C?, comment 10pF
WCAP-CSGP Multilayer Ceramic Chip Capacitor, General Purpose, size 0805, NP0, 10pF, 100V; Manufacturer Part Number: 885012007076; Manufacturer: Wurth Elektronik; Case/Size Code: 0805; Capacitance Tolerance: +/-5%; Insulation Resistance: 10GΩ; Q Factor: 600; Technical Reference: NP00805100J100DFCT10000; Category: Multilayer Ceramic Chip Capacitors; Match Code: WCAP-CSGP; ComponentLink1Description: Website Link; ComponentLink1URL: https://www.we-online.com/redexpert/article/885012007076?ad; ComponentLink2Description: Datasheet Link; ComponentLink2URL: https://www.we-online.com/redexpert/spec/885012007076?ad; Mount: Surface Mount; Min Operating Temperature: -55°C; Max Operating Temperature: 125°C; Packaging: Tape and Reel; Length: 2mm; Width: 1.25mm; Height: 0.6mm; Capacitance: 10pF; Ceramic Type: NP0; Rated Voltage (DC): 100V
footprint WCAP-CSGP_0805_L2W1.25H0.6_Reflow
footprint WCAP-CSGP_0805_L2W1.25H0.6_Wave
simulation model 0805_885012007076_10pF
pins: 1, 2

## 885012007077
designator C?, comment 15pF
WCAP-CSGP Multilayer Ceramic Chip Capacitor, General Purpose, size 0805, NP0, 15pF, 100V; Manufacturer Part Number: 885012007077; Manufacturer: Wurth Elektronik; Case/Size Code: 0805; Capacitance Tolerance: +/-5%; Insulation Resistance: 10GΩ; Q Factor: 700; Technical Reference: NP00805150J100DFCT10000; Category: Multilayer Ceramic Chip Capacitors; Match Code: WCAP-CSGP; ComponentLink1Description: Website Link; ComponentLink1URL: https://www.we-online.com/redexpert/article/885012007077?ad; ComponentLink2Description: Datasheet Link; ComponentLink2URL: https://www.we-online.com/redexpert/spec/885012007077?ad; Mount: Surface Mount; Min Operating Temperature: -55°C; Max Operating Temperature: 125°C; Packaging: Tape and Reel; Length: 2mm; Width: 1.25mm; Height: 0.6mm; Capacitance: 15pF; Ceramic Type: NP0; Rated Voltage (DC): 100V
footprint WCAP-CSGP_0805_L2W1.25H0.6_Reflow
footprint WCAP-CSGP_0805_L2W1.25H0.6_Wave
simulation model 0805_885012007077_15pF
pins: 1, 2

## 885012007079
designator C?, comment 33pF
WCAP-CSGP Multilayer Ceramic Chip Capacitor, General Purpose, size 0805, NP0, 33pF, 100V; Manufacturer Part Number: 885012007079; Manufacturer: Wurth Elektronik; Case/Size Code: 0805; Capacitance Tolerance: +/-5%; Insulation Resistance: 10GΩ; Q Factor: 1000; Technical Reference: NP00805330J100DFCT10000; Category: Multilayer Ceramic Chip Capacitors; Match Code: WCAP-CSGP; ComponentLink1Description: Website Link; ComponentLink1URL: https://www.we-online.com/redexpert/article/885012007079?ad; ComponentLink2Description: Datasheet Link; ComponentLink2URL: https://www.we-online.com/redexpert/spec/885012007079?ad; Mount: Surface Mount; Min Operating Temperature: -55°C; Max Operating Temperature: 125°C; Packaging: Tape and Reel; Length: 2mm; Width: 1.25mm; Height: 0.6mm; Capacitance: 33pF; Ceramic Type: NP0; Rated Voltage (DC): 100V
footprint WCAP-CSGP_0805_L2W1.25H0.6_Reflow
footprint WCAP-CSGP_0805_L2W1.25H0.6_Wave
simulation model 0805_885012007079_33pF
pins: 1, 2

## 885012007080
designator C?, comment 47pF
WCAP-CSGP Multilayer Ceramic Chip Capacitor, General Purpose, size 0805, NP0, 47pF, 100V; Manufacturer Part Number: 885012007080; Manufacturer: Wurth Elektronik; Case/Size Code: 0805; Capacitance Tolerance: +/-5%; Insulation Resistance: 10GΩ; Q Factor: 1000; Technical Reference: NP00805470J100DFCT10000; Category: Multilayer Ceramic Chip Capacitors; Match Code: WCAP-CSGP; ComponentLink1Description: Website Link; ComponentLink1URL: https://www.we-online.com/redexpert/article/885012007080?ad; ComponentLink2Description: Datasheet Link; ComponentLink2URL: https://www.we-online.com/redexpert/spec/885012007080?ad; Mount: Surface Mount; Min Operating Temperature: -55°C; Max Operating Temperature: 125°C; Packaging: Tape and Reel; Length: 2mm; Width: 1.25mm; Height: 0.6mm; Capacitance: 47pF; Ceramic Type: NP0; Rated Voltage (DC): 100V
footprint WCAP-CSGP_0805_L2W1.25H0.6_Reflow
footprint WCAP-CSGP_0805_L2W1.25H0.6_Wave
simulation model 0805_885012007080_47pF
pins: 1, 2

## 885012007081
designator C?, comment 68pF
WCAP-CSGP Multilayer Ceramic Chip Capacitor, General Purpose, size 0805, NP0, 68pF, 100V; Manufacturer Part Number: 885012007081; Manufacturer: Wurth Elektronik; Case/Size Code: 0805; Capacitance Tolerance: +/-5%; Insulation Resistance: 10GΩ; Q Factor: 1000; Technical Reference: NP00805680J100DFCT10000; Category: Multilayer Ceramic Chip Capacitors; Match Code: WCAP-CSGP; ComponentLink1Description: Website Link; ComponentLink1URL: https://www.we-online.com/redexpert/article/885012007081?ad; ComponentLink2Description: Datasheet Link; ComponentLink2URL: https://www.we-online.com/redexpert/spec/885012007081?ad; Mount: Surface Mount; Min Operating Temperature: -55°C; Max Operating Temperature: 125°C; Packaging: Tape and Reel; Length: 2mm; Width: 1.25mm; Height: 0.6mm; Capacitance: 68pF; Ceramic Type: NP0; Rated Voltage (DC): 100V
footprint WCAP-CSGP_0805_L2W1.25H0.6_Reflow
footprint WCAP-CSGP_0805_L2W1.25H0.6_Wave
simulation model 0805_885012007081_68pF
pins: 1, 2

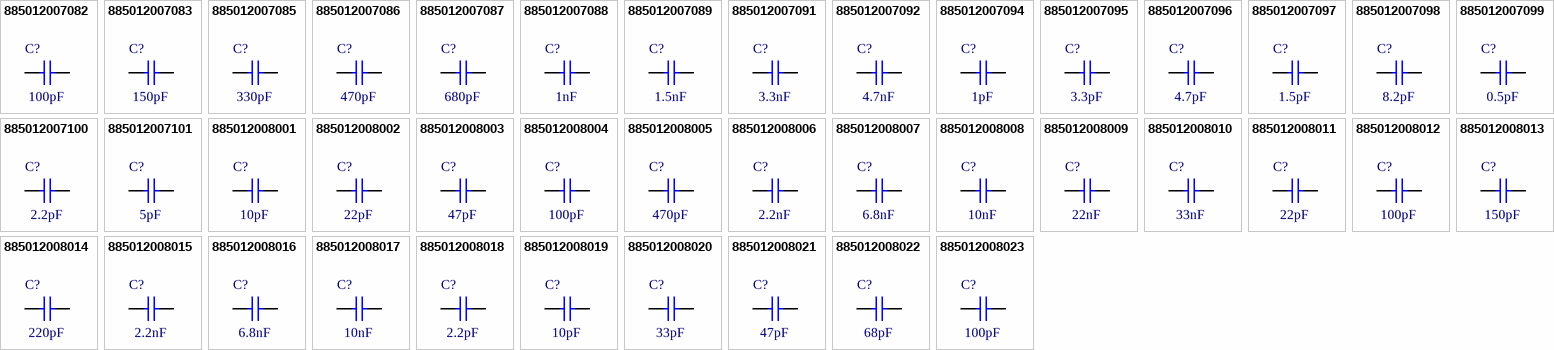
[diagram p6: symbols 885012007082 to 885012008023]

## 885012007082
designator C?, comment 100pF
WCAP-CSGP Multilayer Ceramic Chip Capacitor, General Purpose, size 0805, NP0, 100pF, 100V; Manufacturer Part Number: 885012007082; Manufacturer: Wurth Elektronik; Case/Size Code: 0805; Capacitance Tolerance: +/-5%; Insulation Resistance: 10GΩ; Q Factor: 1000; Technical Reference: NP00805101J100DFCT10000; Category: Multilayer Ceramic Chip Capacitors; Match Code: WCAP-CSGP; ComponentLink1Description: Website Link; ComponentLink1URL: https://www.we-online.com/redexpert/article/885012007082?ad; ComponentLink2Description: Datasheet Link; ComponentLink2URL: https://www.we-online.com/redexpert/spec/885012007082?ad; Mount: Surface Mount; Min Operating Temperature: -55°C; Max Operating Temperature: 125°C; Packaging: Tape and Reel; Length: 2mm; Width: 1.25mm; Height: 0.6mm; Capacitance: 100pF; Ceramic Type: NP0; Rated Voltage (DC): 100V
footprint WCAP-CSGP_0805_L2W1.25H0.6_Reflow
footprint WCAP-CSGP_0805_L2W1.25H0.6_Wave
simulation model 0805_885012007082_100pF
pins: 1, 2

## 885012007083
designator C?, comment 150pF
WCAP-CSGP Multilayer Ceramic Chip Capacitor, General Purpose, size 0805, NP0, 150pF, 100V; Manufacturer Part Number: 885012007083; Manufacturer: Wurth Elektronik; Case/Size Code: 0805; Capacitance Tolerance: +/-5%; Insulation Resistance: 10GΩ; Q Factor: 1000; Technical Reference: NP00805151J100DFCT10000; Category: Multilayer Ceramic Chip Capacitors; Match Code: WCAP-CSGP; ComponentLink1Description: Website Link; ComponentLink1URL: https://www.we-online.com/redexpert/article/885012007083?ad; ComponentLink2Description: Datasheet Link; ComponentLink2URL: https://www.we-online.com/redexpert/spec/885012007083?ad; Mount: Surface Mount; Min Operating Temperature: -55°C; Max Operating Temperature: 125°C; Packaging: Tape and Reel; Length: 2mm; Width: 1.25mm; Height: 0.6mm; Capacitance: 150pF; Ceramic Type: NP0; Rated Voltage (DC): 100V
footprint WCAP-CSGP_0805_L2W1.25H0.6_Reflow
footprint WCAP-CSGP_0805_L2W1.25H0.6_Wave
simulation model 0805_885012007083_150pF
pins: 1, 2

## 885012007085
designator C?, comment 330pF
WCAP-CSGP Multilayer Ceramic Chip Capacitor, General Purpose, size 0805, NP0, 330pF, 100V; Manufacturer Part Number: 885012007085; Manufacturer: Wurth Elektronik; Case/Size Code: 0805; Capacitance Tolerance: +/-5%; Insulation Resistance: 10GΩ; Q Factor: 1000; Technical Reference: NP00805331J100DFCT10000; Category: Multilayer Ceramic Chip Capacitors; Match Code: WCAP-CSGP; ComponentLink1Description: Website Link; ComponentLink1URL: https://www.we-online.com/redexpert/article/885012007085?ad; ComponentLink2Description: Datasheet Link; ComponentLink2URL: https://www.we-online.com/redexpert/spec/885012007085?ad; Mount: Surface Mount; Min Operating Temperature: -55°C; Max Operating Temperature: 125°C; Packaging: Tape and Reel; Length: 2mm; Width: 1.25mm; Height: 0.6mm; Capacitance: 330pF; Ceramic Type: NP0; Rated Voltage (DC): 100V
footprint WCAP-CSGP_0805_L2W1.25H0.6_Reflow
footprint WCAP-CSGP_0805_L2W1.25H0.6_Wave
simulation model 0805_885012007085_330pF
pins: 1, 2

## 885012007086
designator C?, comment 470pF
WCAP-CSGP Multilayer Ceramic Chip Capacitor, General Purpose, size 0805, NP0, 470pF, 100V; Manufacturer Part Number: 885012007086; Manufacturer: Wurth Elektronik; Case/Size Code: 0805; Capacitance Tolerance: +/-5%; Insulation Resistance: 10GΩ; Q Factor: 1000; Technical Reference: NP00805471J100DFCT10000; Category: Multilayer Ceramic Chip Capacitors; Match Code: WCAP-CSGP; ComponentLink1Description: Website Link; ComponentLink1URL: https://www.we-online.com/redexpert/article/885012007086?ad; ComponentLink2Description: Datasheet Link; ComponentLink2URL: https://www.we-online.com/redexpert/spec/885012007086?ad; Mount: Surface Mount; Min Operating Temperature: -55°C; Max Operating Temperature: 125°C; Packaging: Tape and Reel; Length: 2mm; Width: 1.25mm; Height: 0.8mm; Capacitance: 470pF; Ceramic Type: NP0; Rated Voltage (DC): 100V
footprint WCAP-CSGP_0805_L2W1.25H0.8_Reflow
footprint WCAP-CSGP_0805_L2W1.25H0.8_Wave
simulation model 0805_885012007086_470pF
pins: 1, 2

## 885012007087
designator C?, comment 680pF
WCAP-CSGP Multilayer Ceramic Chip Capacitor, General Purpose, size 0805, NP0, 680pF, 100V; Manufacturer Part Number: 885012007087; Manufacturer: Wurth Elektronik; Case/Size Code: 0805; Capacitance Tolerance: +/-5%; Insulation Resistance: 10GΩ; Q Factor: 1000; Technical Reference: NP00805681J100DFCT10000; Category: Multilayer Ceramic Chip Capacitors; Match Code: WCAP-CSGP; ComponentLink1Description: Website Link; ComponentLink1URL: https://www.we-online.com/redexpert/article/885012007087?ad; ComponentLink2Description: Datasheet Link; ComponentLink2URL: https://www.we-online.com/redexpert/spec/885012007087?ad; Mount: Surface Mount; Min Operating Temperature: -55°C; Max Operating Temperature: 125°C; Packaging: Tape and Reel; Length: 2mm; Width: 1.25mm; Height: 0.8mm; Capacitance: 680pF; Ceramic Type: NP0; Rated Voltage (DC): 100V
footprint WCAP-CSGP_0805_L2W1.25H0.8_Reflow
footprint WCAP-CSGP_0805_L2W1.25H0.8_Wave
simulation model 0805_885012007087_680pF
pins: 1, 2

## 885012007088
designator C?, comment 1nF
WCAP-CSGP Multilayer Ceramic Chip Capacitor, General Purpose, size 0805, NP0, 1nF, 100V; Manufacturer Part Number: 885012007088; Manufacturer: Wurth Elektronik; Case/Size Code: 0805; Capacitance Tolerance: +/-5%; Insulation Resistance: 10GΩ; Q Factor: 1000; Technical Reference: NP00805102J100DFCT10000; Category: Multilayer Ceramic Chip Capacitors; Match Code: WCAP-CSGP; ComponentLink1Description: Website Link; ComponentLink1URL: https://www.we-online.com/redexpert/article/885012007088?ad; ComponentLink2Description: Datasheet Link; ComponentLink2URL: https://www.we-online.com/redexpert/spec/885012007088?ad; Mount: Surface Mount; Min Operating Temperature: -55°C; Max Operating Temperature: 125°C; Packaging: Tape and Reel; Length: 2mm; Width: 1.25mm; Height: 0.8mm; Capacitance: 1nF; Ceramic Type: NP0; Rated Voltage (DC): 100V
footprint WCAP-CSGP_0805_L2W1.25H0.8_Reflow
footprint WCAP-CSGP_0805_L2W1.25H0.8_Wave
simulation model 0805_885012007088_1nF
pins: 1, 2

## 885012007089
designator C?, comment 1.5nF
WCAP-CSGP Multilayer Ceramic Chip Capacitor, General Purpose, size 0805, NP0, 1.5nF, 100V; Manufacturer Part Number: 885012007089; Manufacturer: Wurth Elektronik; Case/Size Code: 0805; Capacitance Tolerance: +/-5%; Insulation Resistance: 10GΩ; Q Factor: 1000; Technical Reference: NP00805152J100DFCT10000; Category: Multilayer Ceramic Chip Capacitors; Match Code: WCAP-CSGP; ComponentLink1Description: Website Link; ComponentLink1URL: https://www.we-online.com/redexpert/article/885012007089?ad; ComponentLink2Description: Datasheet Link; ComponentLink2URL: https://www.we-online.com/redexpert/spec/885012007089?ad; Mount: Surface Mount; Min Operating Temperature: -55°C; Max Operating Temperature: 125°C; Packaging: Tape and Reel; Length: 2mm; Width: 1.25mm; Height: 0.8mm; Capacitance: 1.5nF; Ceramic Type: NP0; Rated Voltage (DC): 100V
footprint WCAP-CSGP_0805_L2W1.25H0.8_Reflow
footprint WCAP-CSGP_0805_L2W1.25H0.8_Wave
simulation model 0805_885012007089_1.5nF
pins: 1, 2